# Altium integrated library 7488910245_Altium_WE-MCA_rev19a.IntLib: 7 symbols
Pins are listed as number, name and electrical type; pins without a type are passive.

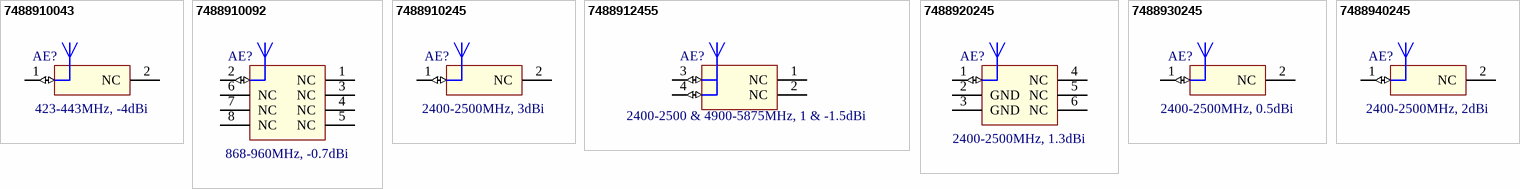
[diagram p0: symbols 7488910043 to 7488940245]

## 7488910043
designator AE?, comment 423-443MHz, -4dBi
WE-MCA SMT Multilayer Chip Antenna, size 25x5mm, 423-443MHz, -4dBi; Part Number: 7488910043; Power Capacity: 3W; VSWR: 2; ComponentLink1Description: Manufacturer; ComponentLink1URL: http://www.we-online.de; ComponentLink2Description: Datasheet; ComponentLink2URL: https://katalog.we-online.com/pbs/datasheet/7488910043.pdf; Published Date: July 2019; Publisher: Wurth Elektronik; Size: 25x5mm; Mounting Technology: SMT; Frequency Range: 423-443MHz; Packaging: Tape and Reel; Peak Gain: -4dBi; Operating Temperature: -40 to +85degC; Average Gain: -4dBi
footprint 7488910043
pins: 1 Feed (io), 2 NC

## 7488910092
designator AE?, comment 868-960MHz, -0.7dBi
WE-MCA SMT Multilayer Chip Antenna, size 11x5.1mm, 868-960MHz, -0.7dBi; Part Number: 7488910092; Power Capacity: 2W; VSWR: 2.5; Average Gain: -2.6dBi; ComponentLink1Description: Manufacturer; ComponentLink1URL: http://www.we-online.de; ComponentLink2Description: Datasheet; ComponentLink2URL: https://katalog.we-online.com/pbs/datasheet/7488910092.pdf; Published Date: July 2019; Publisher: Wurth Elektronik; Size: 11x5.1mm; Mounting Technology: SMT; Frequency Range: 868-960MHz; Packaging: Tape and Reel; Peak Gain: -0.7dBi; Operating Temperature: -40 to +85degC
footprint 7488910092
pins: 1 NC, 2 Feed (io), 3 NC, 4 NC, 5 NC, 6 NC, 7 NC, 8 NC

## 7488910245
designator AE?, comment 2400-2500MHz, 3dBi
WE-MCA SMT Multilayer Chip Antenna, size 9.5x2mm, 2400-2500MHz, 3dBi; Part Number: 7488910245; Power Capacity: 3W; VSWR: 2; Average Gain: 1dBi; ComponentLink1Description: Manufacturer; ComponentLink1URL: http://www.we-online.de; ComponentLink2Description: Datasheet; ComponentLink2URL: https://katalog.we-online.com/pbs/datasheet/7488910245.pdf; Published Date: July 2019; Publisher: Wurth Elektronik; Size: 9.5x2mm; Mounting Technology: SMT; Frequency Range: 2400-2500MHz; Packaging: Tape and Reel; Peak Gain: 3dBi; Operating Temperature: -40 to +85degC
footprint 7488910245
pins: 1 Feed (io), 2 NC

## 7488912455
designator AE?, comment 2400-2500 & 4900-5875MHz, 1 & -1.5dBi
WE-MCA SMT Multilayer Chip Antenna, size 8.5x1.6mm, 2400-2500 & 4900-5875MHz, 1 & -1.5dBi; Part Number: 7488912455; Power Capacity: 2W; VSWR: 2.2; Average Gain: -2.5dBi; ComponentLink1Description: Manufacturer; ComponentLink1URL: http://www.we-online.de; ComponentLink2Description: Datasheet; ComponentLink2URL: https://katalog.we-online.com/pbs/datasheet/7488912455.pdf; Published Date: July 2019; Publisher: Wurth Elektronik; Size: 8.5x1.6mm; Mounting Technology: SMT; Frequency Range: 2400-2500 & 4900-5875MHz; Packaging: Tape and Reel; Peak Gain: 1 & -1.5dBi; Operating Temperature: -40 to +85degC
footprint 7488912455
pins: 1 NC, 2 NC, 3 Feed_Low Band (io), 4 Feed_High Band (io)

## 7488920245
designator AE?, comment 2400-2500MHz, 1.3dBi
WE-MCA SMT Multilayer Chip Antenna, size 7.6x3.5mm, 2400-2500MHz, 1.3dBi; Part Number: 7488920245; Power Capacity: 2W; VSWR: 2; Average Gain: 0dBi; ComponentLink1Description: Manufacturer; ComponentLink1URL: http://www.we-online.de; ComponentLink2Description: Datasheet; ComponentLink2URL: https://katalog.we-online.com/pbs/datasheet/7488920245.pdf; Published Date: July 2019; Publisher: Wurth Elektronik; Size: 7.6x3.5mm; Mounting Technology: SMT; Frequency Range: 2400-2500MHz; Packaging: Tape and Reel; Peak Gain: 1.3dBi; Operating Temperature: -40 to +85degC
footprint 7488920245
pins: 1 Feed (io), 2 GND, 3 GND, 4 NC, 5 NC, 6 NC

## 7488930245
designator AE?, comment 2400-2500MHz, 0.5dBi
WE-MCA SMT Multilayer Chip Antenna, size 3.2x1.6mm, 2400-2500MHz, 0.5dBi; Part Number: 7488930245; Power Capacity: 3W; VSWR: 2; Average Gain: -0.5dBi; ComponentLink1Description: Manufacturer; ComponentLink1URL: http://www.we-online.de; ComponentLink2Description: Datasheet; ComponentLink2URL: https://katalog.we-online.com/pbs/datasheet/7488930245.pdf; Published Date: July 2019; Publisher: Wurth Elektronik; Size: 3.2x1.6mm; Mounting Technology: SMT; Frequency Range: 2400-2500MHz; Packaging: Tape and Reel; Peak Gain: 0.5dBi; Operating Temperature: -40 to +85degC
footprint 7488930245
pins: 1 Feed (io), 2 NC

## 7488940245
designator AE?, comment 2400-2500MHz, 2dBi
WE-MCA SMT Multilayer Chip Antenna, size 7x2mm, 2400-2500MHz, 2dBi; Part Number: 7488940245; Power Capacity: 2W; VSWR: 2; Average Gain: 0.5dBi; ComponentLink1Description: Manufacturer; ComponentLink1URL: http://www.we-online.de; ComponentLink2Description: Datasheet; ComponentLink2URL: https://katalog.we-online.com/pbs/datasheet/7488940245.pdf; Published Date: July 2019; Publisher: Wurth Elektronik; Size: 7x2mm; Mounting Technology: SMT; Frequency Range: 2400-2500MHz; Packaging: Tape and Reel; Peak Gain: 2dBi; Operating Temperature: -40 to +85degC
footprint 7488940245
pins: 1 Feed (io), 2 NC